# Altium integrated library TI Interface Peripheral Driver.IntLib: 66 symbols (part 1 of 2)
Pins are listed as number, name and electrical type; pins without a type are passive.

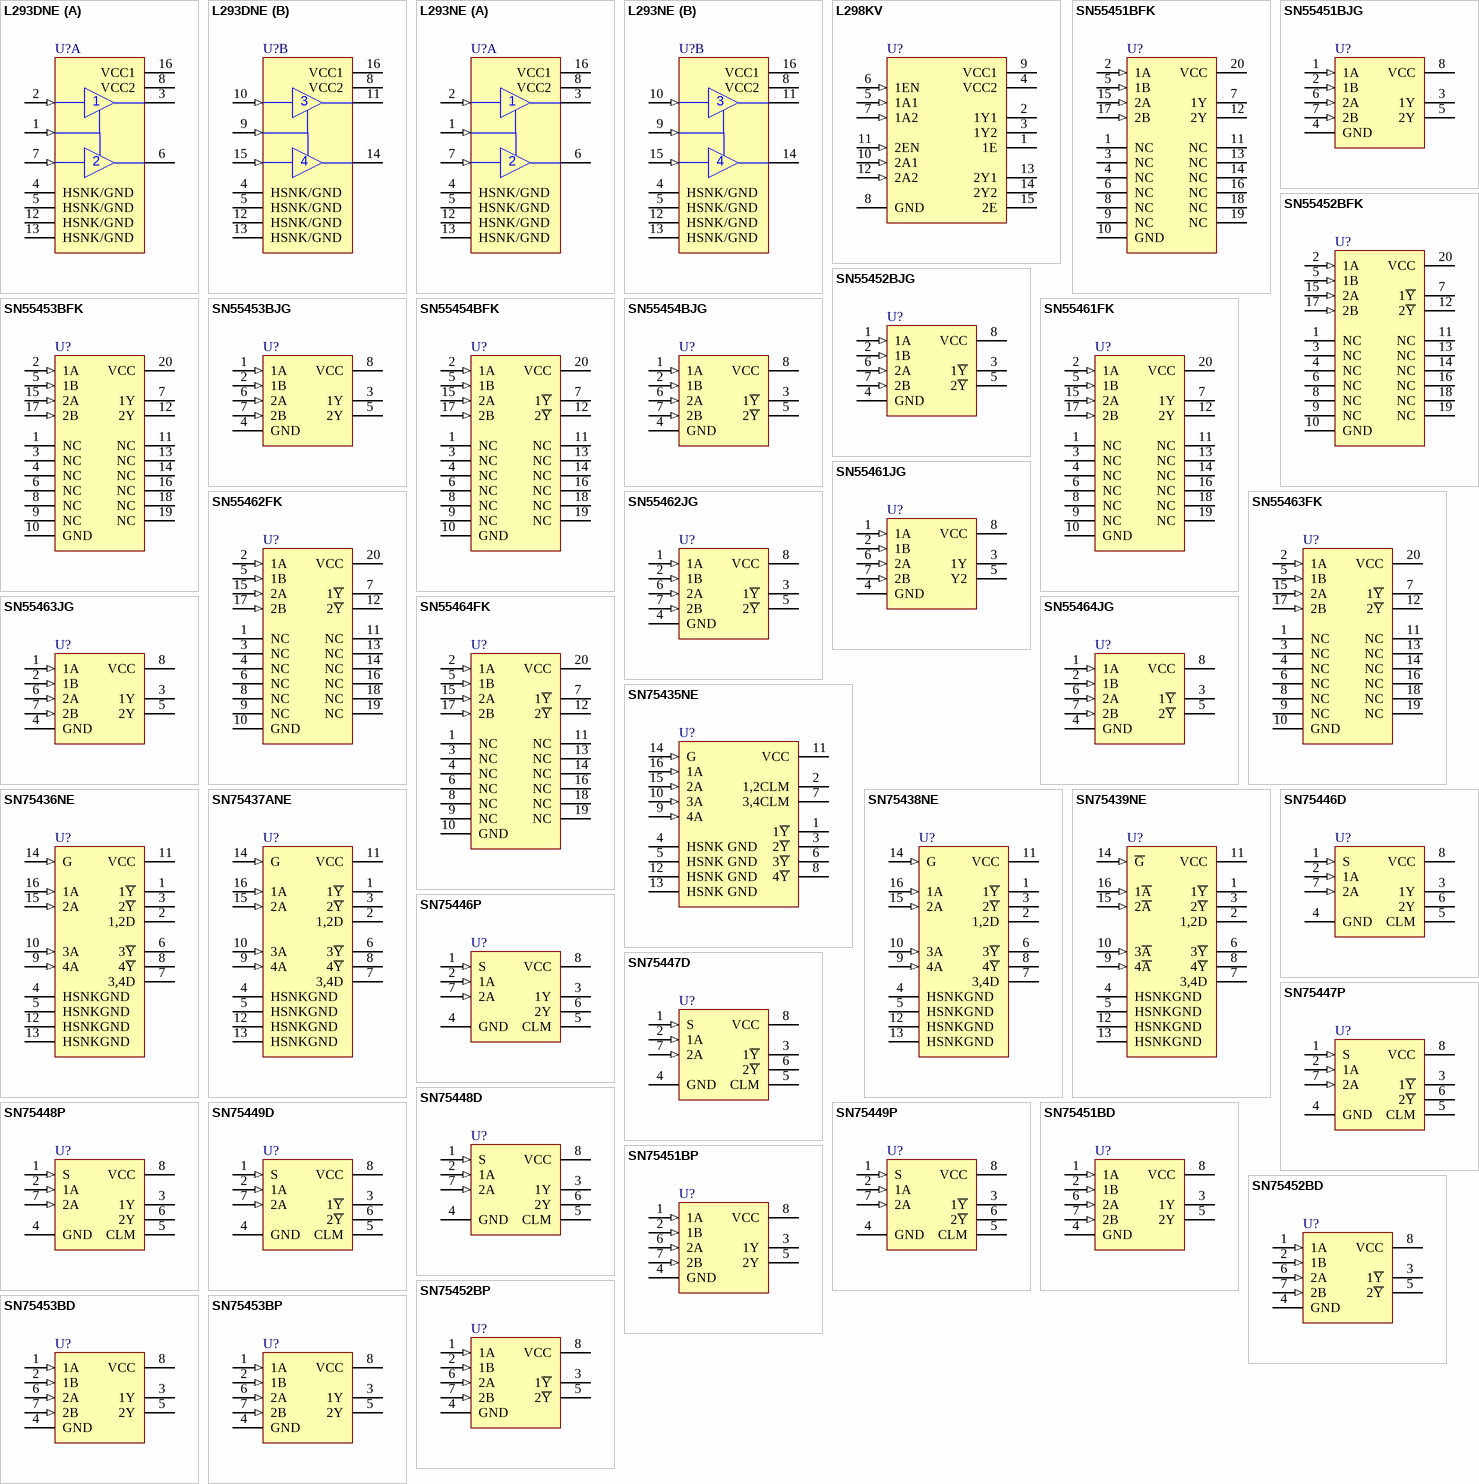
[diagram p0: symbols L293DNE to SN75453BP]

## L293DNE
designator U?
Quadruple Half-H Driver; Published: 15-May-2002; LatestRevisionDate: 29-May-2009; LatestRevisionNote: Component Body Added.; DatasheetVersion: May-1990; PackageVersion: 1991; PackageReference: NE016; Publisher: Altium Limited; PackageDescription: DIP, 16-Pin, Row Spacing 7.62 mm, Pitch 2.54 mm; Code_JEDEC: MS-001-BB; ComponentLink1Description: Manufacturer Link; ComponentLink1URL: http://www.ti.com/; ComponentLink2Description: Datasheet; ComponentLink2URL: http://www-s.ti.com/sc/ds/l293d.pdf
footprint NE016 (DIP, 16-Leads, Row Spacing 7.62mm, Pitch 2.54mm, Body 19.4x6.35mm)
3D model NE016 (DIP, 16-Pin, Row Spacing 7.62 mm, Pitch 2.54 mm)
pins on every part: 4 HSNK/GND (power), 5 HSNK/GND (power), 8 VCC2 (power), 12 HSNK/GND (power), 13 HSNK/GND (power), 16 VCC1 (power)
part A pins: 1 1,2EN (in), 2 1A (in), 3 1Y (hiz), 6 2Y (hiz), 7 2A (in)
part B pins: 9 3,4EN (in), 10 3A (in), 11 3Y (hiz), 14 4Y (hiz), 15 4A (in)

## L293NE
designator U?
Quadruple Half-H Driver; Published: 15-May-2002; LatestRevisionDate: 29-May-2009; LatestRevisionNote: Component Body Added.; DatasheetVersion: May-1990; PackageVersion: 1991; PackageReference: NE016; Publisher: Altium Limited; PackageDescription: DIP, 16-Pin, Row Spacing 7.62 mm, Pitch 2.54 mm; Code_JEDEC: MS-001-BB; ComponentLink1Description: Manufacturer Link; ComponentLink1URL: http://www.ti.com/; ComponentLink2Description: Datasheet; ComponentLink2URL: http://www-s.ti.com/sc/ds/l293.pdf
footprint NE016 (DIP, 16-Leads, Row Spacing 7.62mm, Pitch 2.54mm, Body 19.4x6.35mm)
3D model NE016 (DIP, 16-Pin, Row Spacing 7.62 mm, Pitch 2.54 mm)
pins on every part: 4 HSNK/GND (power), 5 HSNK/GND (power), 8 VCC2 (power), 12 HSNK/GND (power), 13 HSNK/GND (power), 16 VCC1 (power)
part A pins: 1 1,2EN (in), 2 1A (in), 3 1Y (hiz), 6 2Y (hiz), 7 2A (in)
part B pins: 9 3,4EN (in), 10 3A (in), 11 3Y (hiz), 14 4Y (hiz), 15 4A (in)

## L298KV
designator U?
Dual Full-H Driver; Note: The tab is elec is connected to GND pin; Published: 15-May-2002; DatasheetVersion: Jun-1990; PackageReference: KV015; Publisher: Altium Limited; PackageDescription: TO, Thru-Hole, Vertical, Heatsink Mounted; 15 Bent Staggered Leads; Pitch 1.27 mm; ComponentLink1Description: Manufacturer Link; ComponentLink1URL: http://www.ti.com/
footprint KV015 (TO, Thru-Hole, Vertical, Heatsink Mounted; 15 Bent Staggered Leads; Pitch 1.27 mm)
pins: 1 1E, 2 1Y1 (hiz), 3 1Y2 (hiz), 4 VCC2 (power), 5 1A1 (in), 6 1EN (in), 7 1A2 (in), 8 GND (power), 9 VCC1 (power), 10 2A1 (in), 11 2EN (in), 12 2A2 (in), 13 2Y1 (hiz), 14 2Y2 (hiz), 15 2E

## SN55451BFK
designator U?
Dual Peripheral Driver; Published: 15-May-2002; LatestRevisionDate: 29-May-2009; LatestRevisionNote: IPC-7351 Footprint Added.; DatasheetVersion: May-1990; PackageVersion: 1998; PackageReference: FK020; Publisher: Altium Limited; PackageDescription: 20-Pin Leadless Chip Carrier 1.27 mm Pitch; Code_JEDEC: MS-004-CB; ComponentLink1Description: Manufacturer Link; ComponentLink1URL: http://www.ti.com/
footprint FK020_N (Leadless Chip Carrier, 20-Leads, Body 8.9x8.9mm, Pitch 1.27mm, IPC Medium Density)
footprint FK020_L (Leadless Chip Carrier, 20-Leads, Body 8.9x8.9mm, Pitch 1.27mm, IPC High Density)
footprint FK020_M (Leadless Chip Carrier, 20-Leads, Body 8.9x8.9mm, Pitch 1.27mm, IPC Low Density)
pins: 1 NC, 2 1A (in), 3 NC, 4 NC, 5 1B (in), 6 NC, 7 1Y (oc), 8 NC, 9 NC, 10 GND (power), 11 NC, 12 2Y (oc), 13 NC, 14 NC, 15 2A (in), 16 NC, 17 2B (in), 18 NC, 19 NC, 20 VCC (power)

## SN55451BJG
designator U?
Dual Peripheral Driver; Published: 15-May-2002; LatestRevisionDate: 29-May-2009; LatestRevisionNote: Component Body Added.; DatasheetVersion: May-1990; PackageVersion: Jan-1995; PackageReference: JG008; Publisher: Altium Limited; PackageDescription: DIP, Ceramic, 8-Pin, Row Spacing 7.62 mm, Pitch 2.54 mm; ComponentLink1Description: Manufacturer Link; ComponentLink1URL: http://www.ti.com/; ComponentLink2Description: Datasheet; ComponentLink2URL: http://www-s.ti.com/sc/ds/sn55451b.pdf
footprint JG008 (DIP, 8-Leads, Row Spacing 7.62mm, Pitch 2.54mm, Body 9.58x6.67mm)
3D model JG008 (DIP, Ceramic, 8-Pin, Row Spacing 7.62 mm, Pitch 2.54 mm)
pins: 1 1A (in), 2 1B (in), 3 1Y (oc), 4 GND (power), 5 2Y (oc), 6 2A (in), 7 2B (in), 8 VCC (power)

## SN55452BFK
designator U?
Dual Peripheral Driver; Published: 15-May-2002; LatestRevisionDate: 29-May-2009; LatestRevisionNote: IPC-7351 Footprint Added.; DatasheetVersion: May-1990; PackageVersion: 1998; PackageReference: FK020; Publisher: Altium Limited; PackageDescription: 20-Pin Leadless Chip Carrier 1.27 mm Pitch; Code_JEDEC: MS-004-CB; ComponentLink1Description: Manufacturer Link; ComponentLink1URL: http://www.ti.com/
footprint FK020_N (Leadless Chip Carrier, 20-Leads, Body 8.9x8.9mm, Pitch 1.27mm, IPC Medium Density)
footprint FK020_L (Leadless Chip Carrier, 20-Leads, Body 8.9x8.9mm, Pitch 1.27mm, IPC High Density)
footprint FK020_M (Leadless Chip Carrier, 20-Leads, Body 8.9x8.9mm, Pitch 1.27mm, IPC Low Density)
pins: 1 NC, 2 1A (in), 3 NC, 4 NC, 5 1B (in), 6 NC, 7 1~{Y} (oc), 8 NC, 9 NC, 10 GND (power), 11 NC, 12 2~{Y} (oc), 13 NC, 14 NC, 15 2A (in), 16 NC, 17 2B (in), 18 NC, 19 NC, 20 VCC (power)

## SN55452BJG
designator U?
Dual Peripheral Driver; Published: 15-May-2002; LatestRevisionDate: 29-May-2009; LatestRevisionNote: Component Body Added.; DatasheetVersion: May-1990; PackageVersion: Jan-1995; PackageReference: JG008; Publisher: Altium Limited; PackageDescription: DIP, Ceramic, 8-Pin, Row Spacing 7.62 mm, Pitch 2.54 mm; ComponentLink1Description: Manufacturer Link; ComponentLink1URL: http://www.ti.com/; ComponentLink2Description: Datasheet; ComponentLink2URL: http://www-s.ti.com/sc/ds/sn55451b.pdf
footprint JG008 (DIP, 8-Leads, Row Spacing 7.62mm, Pitch 2.54mm, Body 9.58x6.67mm)
3D model JG008 (DIP, Ceramic, 8-Pin, Row Spacing 7.62 mm, Pitch 2.54 mm)
pins: 1 1A (in), 2 1B (in), 3 1~{Y} (oc), 4 GND (power), 5 2~{Y} (oc), 6 2A (in), 7 2B (in), 8 VCC (power)

## SN55453BFK
designator U?
Dual Peripheral Driver; Published: 15-May-2002; LatestRevisionDate: 29-May-2009; LatestRevisionNote: IPC-7351 Footprint Added.; DatasheetVersion: May-1990; PackageVersion: 1998; PackageReference: FK020; Publisher: Altium Limited; PackageDescription: 20-Pin Leadless Chip Carrier 1.27 mm Pitch; Code_JEDEC: MS-004-CB; ComponentLink1Description: Manufacturer Link; ComponentLink1URL: http://www.ti.com/
footprint FK020_N (Leadless Chip Carrier, 20-Leads, Body 8.9x8.9mm, Pitch 1.27mm, IPC Medium Density)
footprint FK020_L (Leadless Chip Carrier, 20-Leads, Body 8.9x8.9mm, Pitch 1.27mm, IPC High Density)
footprint FK020_M (Leadless Chip Carrier, 20-Leads, Body 8.9x8.9mm, Pitch 1.27mm, IPC Low Density)
pins: 1 NC, 2 1A (in), 3 NC, 4 NC, 5 1B (in), 6 NC, 7 1Y (oc), 8 NC, 9 NC, 10 GND (power), 11 NC, 12 2Y (oc), 13 NC, 14 NC, 15 2A (in), 16 NC, 17 2B (in), 18 NC, 19 NC, 20 VCC (power)

## SN55453BJG
designator U?
Dual Peripheral Driver; Published: 15-May-2002; LatestRevisionDate: 29-May-2009; LatestRevisionNote: Component Body Added.; DatasheetVersion: May-1990; PackageVersion: Jan-1995; PackageReference: JG008; Publisher: Altium Limited; PackageDescription: DIP, Ceramic, 8-Pin, Row Spacing 7.62 mm, Pitch 2.54 mm; ComponentLink1Description: Manufacturer Link; ComponentLink1URL: http://www.ti.com/; ComponentLink2Description: Datasheet; ComponentLink2URL: http://www-s.ti.com/sc/ds/sn55451b.pdf
footprint JG008 (DIP, 8-Leads, Row Spacing 7.62mm, Pitch 2.54mm, Body 9.58x6.67mm)
3D model JG008 (DIP, Ceramic, 8-Pin, Row Spacing 7.62 mm, Pitch 2.54 mm)
pins: 1 1A (in), 2 1B (in), 3 1Y (oc), 4 GND (power), 5 2Y (oc), 6 2A (in), 7 2B (in), 8 VCC (power)

## SN55454BFK
designator U?
Dual Peripheral Driver; Published: 15-May-2002; LatestRevisionDate: 29-May-2009; LatestRevisionNote: IPC-7351 Footprint Added.; DatasheetVersion: May-1990; PackageVersion: 1998; PackageReference: FK020; Publisher: Altium Limited; PackageDescription: 20-Pin Leadless Chip Carrier 1.27 mm Pitch; Code_JEDEC: MS-004-CB; ComponentLink1Description: Manufacturer Link; ComponentLink1URL: http://www.ti.com/
footprint FK020_N (Leadless Chip Carrier, 20-Leads, Body 8.9x8.9mm, Pitch 1.27mm, IPC Medium Density)
footprint FK020_L (Leadless Chip Carrier, 20-Leads, Body 8.9x8.9mm, Pitch 1.27mm, IPC High Density)
footprint FK020_M (Leadless Chip Carrier, 20-Leads, Body 8.9x8.9mm, Pitch 1.27mm, IPC Low Density)
pins: 1 NC, 2 1A (in), 3 NC, 4 NC, 5 1B (in), 6 NC, 7 1~{Y} (oc), 8 NC, 9 NC, 10 GND (power), 11 NC, 12 2~{Y} (oc), 13 NC, 14 NC, 15 2A (in), 16 NC, 17 2B (in), 18 NC, 19 NC, 20 VCC (power)

## SN55454BJG
designator U?
Dual Peripheral Driver; Published: 15-May-2002; LatestRevisionDate: 29-May-2009; LatestRevisionNote: Component Body Added.; DatasheetVersion: May-1990; PackageVersion: Jan-1995; PackageReference: JG008; Publisher: Altium Limited; PackageDescription: DIP, Ceramic, 8-Pin, Row Spacing 7.62 mm, Pitch 2.54 mm; ComponentLink1Description: Manufacturer Link; ComponentLink1URL: http://www.ti.com/; ComponentLink2Description: Datasheet; ComponentLink2URL: http://www-s.ti.com/sc/ds/sn55451b.pdf
footprint JG008 (DIP, 8-Leads, Row Spacing 7.62mm, Pitch 2.54mm, Body 9.58x6.67mm)
3D model JG008 (DIP, Ceramic, 8-Pin, Row Spacing 7.62 mm, Pitch 2.54 mm)
pins: 1 1A (in), 2 1B (in), 3 1~{Y} (oc), 4 GND (power), 5 2~{Y} (oc), 6 2A (in), 7 2B (in), 8 VCC (power)

## SN55461FK
designator U?
Dual Peripheral Driver; Published: 15-May-2002; LatestRevisionDate: 29-May-2009; LatestRevisionNote: IPC-7351 Footprint Added.; DatasheetVersion: May-1990; PackageVersion: 1998; PackageReference: FK020; Publisher: Altium Limited; PackageDescription: 20-Pin Leadless Chip Carrier 1.27 mm Pitch; Code_JEDEC: MS-004-CB; ComponentLink1Description: Manufacturer Link; ComponentLink1URL: http://www.ti.com/
footprint FK020_N (Leadless Chip Carrier, 20-Leads, Body 8.9x8.9mm, Pitch 1.27mm, IPC Medium Density)
footprint FK020_L (Leadless Chip Carrier, 20-Leads, Body 8.9x8.9mm, Pitch 1.27mm, IPC High Density)
footprint FK020_M (Leadless Chip Carrier, 20-Leads, Body 8.9x8.9mm, Pitch 1.27mm, IPC Low Density)
pins: 1 NC, 2 1A (in), 3 NC, 4 NC, 5 1B (in), 6 NC, 7 1Y (oc), 8 NC, 9 NC, 10 GND (power), 11 NC, 12 2Y (oc), 13 NC, 14 NC, 15 2A (in), 16 NC, 17 2B (in), 18 NC, 19 NC, 20 VCC (power)

## SN55461JG
designator U?
Dual Peripheral Driver; ComponentAvailability: Obsolete; Published: 15-May-2002; LatestRevisionDate: 29-May-2009; LatestRevisionNote: Component Body Added.; DatasheetVersion: May-1990; PackageVersion: Jan-1995; PackageReference: JG008; Publisher: Altium Limited; PackageDescription: DIP, Ceramic, 8-Pin, Row Spacing 7.62 mm, Pitch 2.54 mm; ComponentLink1Description: Manufacturer Link; ComponentLink1URL: http://www.ti.com/; ComponentLink2Description: Datasheet; ComponentLink2URL: http://www-s.ti.com/sc/ds/sn55461.pdf
footprint JG008 (DIP, 8-Leads, Row Spacing 7.62mm, Pitch 2.54mm, Body 9.58x6.67mm)
3D model JG008 (DIP, Ceramic, 8-Pin, Row Spacing 7.62 mm, Pitch 2.54 mm)
pins: 1 1A (in), 2 1B (in), 3 1Y (oc), 4 GND (power), 5 Y2 (oc), 6 2A (in), 7 2B (in), 8 VCC (power)

## SN55462FK
designator U?
Dual Peripheral Driver; Published: 15-May-2002; LatestRevisionDate: 29-May-2009; LatestRevisionNote: IPC-7351 Footprint Added.; DatasheetVersion: May-1990; PackageVersion: 1998; PackageReference: FK020; Publisher: Altium Limited; PackageDescription: 20-Pin Leadless Chip Carrier 1.27 mm Pitch; Code_JEDEC: MS-004-CB; ComponentLink1Description: Manufacturer Link; ComponentLink1URL: http://www.ti.com/
footprint FK020_N (Leadless Chip Carrier, 20-Leads, Body 8.9x8.9mm, Pitch 1.27mm, IPC Medium Density)
footprint FK020_L (Leadless Chip Carrier, 20-Leads, Body 8.9x8.9mm, Pitch 1.27mm, IPC High Density)
footprint FK020_M (Leadless Chip Carrier, 20-Leads, Body 8.9x8.9mm, Pitch 1.27mm, IPC Low Density)
pins: 1 NC, 2 1A (in), 3 NC, 4 NC, 5 1B (in), 6 NC, 7 1~{Y} (oc), 8 NC, 9 NC, 10 GND (power), 11 NC, 12 2~{Y} (oc), 13 NC, 14 NC, 15 2A (in), 16 NC, 17 2B (in), 18 NC, 19 NC, 20 VCC (power)

## SN55462JG
designator U?
Dual Peripheral Driver; ComponentAvailability: Obsolete; Published: 15-May-2002; LatestRevisionDate: 29-May-2009; LatestRevisionNote: Component Body Added.; DatasheetVersion: May-1990; PackageVersion: Jan-1995; PackageReference: JG008; Publisher: Altium Limited; PackageDescription: DIP, Ceramic, 8-Pin, Row Spacing 7.62 mm, Pitch 2.54 mm; ComponentLink1Description: Manufacturer Link; ComponentLink1URL: http://www.ti.com/; ComponentLink2Description: Datasheet; ComponentLink2URL: http://www-s.ti.com/sc/ds/sn55461.pdf
footprint JG008 (DIP, 8-Leads, Row Spacing 7.62mm, Pitch 2.54mm, Body 9.58x6.67mm)
3D model JG008 (DIP, Ceramic, 8-Pin, Row Spacing 7.62 mm, Pitch 2.54 mm)
pins: 1 1A (in), 2 1B (in), 3 1~{Y} (oc), 4 GND (power), 5 2~{Y} (oc), 6 2A (in), 7 2B (in), 8 VCC (power)

## SN55463FK
designator U?
Dual Peripheral Driver; Published: 15-May-2002; LatestRevisionDate: 29-May-2009; LatestRevisionNote: IPC-7351 Footprint Added.; DatasheetVersion: May-1990; PackageVersion: 1998; PackageReference: FK020; Publisher: Altium Limited; PackageDescription: 20-Pin Leadless Chip Carrier 1.27 mm Pitch; Code_JEDEC: MS-004-CB; ComponentLink1Description: Manufacturer Link; ComponentLink1URL: http://www.ti.com/
footprint FK020_N (Leadless Chip Carrier, 20-Leads, Body 8.9x8.9mm, Pitch 1.27mm, IPC Medium Density)
footprint FK020_L (Leadless Chip Carrier, 20-Leads, Body 8.9x8.9mm, Pitch 1.27mm, IPC High Density)
footprint FK020_M (Leadless Chip Carrier, 20-Leads, Body 8.9x8.9mm, Pitch 1.27mm, IPC Low Density)
pins: 1 NC, 2 1A (in), 3 NC, 4 NC, 5 1B (in), 6 NC, 7 1~{Y} (oc), 8 NC, 9 NC, 10 GND (power), 11 NC, 12 2~{Y} (oc), 13 NC, 14 NC, 15 2A (in), 16 NC, 17 2B (in), 18 NC, 19 NC, 20 VCC (power)

## SN55463JG
designator U?
Dual Peripheral Driver; ComponentAvailability: Obsolete; Published: 15-May-2002; LatestRevisionDate: 29-May-2009; LatestRevisionNote: Component Body Added.; DatasheetVersion: May-1990; PackageVersion: Jan-1995; PackageReference: JG008; Publisher: Altium Limited; PackageDescription: DIP, Ceramic, 8-Pin, Row Spacing 7.62 mm, Pitch 2.54 mm; ComponentLink1Description: Manufacturer Link; ComponentLink1URL: http://www.ti.com/; ComponentLink2Description: Datasheet; ComponentLink2URL: http://www-s.ti.com/sc/ds/sn55461.pdf
footprint JG008 (DIP, 8-Leads, Row Spacing 7.62mm, Pitch 2.54mm, Body 9.58x6.67mm)
3D model JG008 (DIP, Ceramic, 8-Pin, Row Spacing 7.62 mm, Pitch 2.54 mm)
pins: 1 1A (in), 2 1B (in), 3 1Y (oc), 4 GND (power), 5 2Y (oc), 6 2A (in), 7 2B (in), 8 VCC (power)

## SN55464FK
designator U?
Dual Peripheral Driver; Published: 15-May-2002; LatestRevisionDate: 29-May-2009; LatestRevisionNote: IPC-7351 Footprint Added.; DatasheetVersion: May-1990; PackageVersion: 1998; PackageReference: FK020; Publisher: Altium Limited; PackageDescription: 20-Pin Leadless Chip Carrier 1.27 mm Pitch; Code_JEDEC: MS-004-CB; ComponentLink1Description: Manufacturer Link; ComponentLink1URL: http://www.ti.com/
footprint FK020_N (Leadless Chip Carrier, 20-Leads, Body 8.9x8.9mm, Pitch 1.27mm, IPC Medium Density)
footprint FK020_L (Leadless Chip Carrier, 20-Leads, Body 8.9x8.9mm, Pitch 1.27mm, IPC High Density)
footprint FK020_M (Leadless Chip Carrier, 20-Leads, Body 8.9x8.9mm, Pitch 1.27mm, IPC Low Density)
pins: 1 NC, 2 1A (in), 3 NC, 4 NC, 5 1B (in), 6 NC, 7 1~{Y} (oc), 8 NC, 9 NC, 10 GND (power), 11 NC, 12 2~{Y} (oc), 13 NC, 14 NC, 15 2A (in), 16 NC, 17 2B (in), 18 NC, 19 NC, 20 VCC (power)

## SN55464JG
designator U?
Dual Peripheral Driver; Published: 15-May-2002; LatestRevisionDate: 29-May-2009; LatestRevisionNote: Component Body Added.; DatasheetVersion: May-1990; PackageVersion: Jan-1995; PackageReference: JG008; Publisher: Altium Limited; PackageDescription: DIP, Ceramic, 8-Pin, Row Spacing 7.62 mm, Pitch 2.54 mm; ComponentLink1Description: Manufacturer Link; ComponentLink1URL: http://www.ti.com/
footprint JG008 (DIP, 8-Leads, Row Spacing 7.62mm, Pitch 2.54mm, Body 9.58x6.67mm)
3D model JG008 (DIP, Ceramic, 8-Pin, Row Spacing 7.62 mm, Pitch 2.54 mm)
pins: 1 1A (in), 2 1B (in), 3 1~{Y} (oc), 4 GND (power), 5 2~{Y} (oc), 6 2A (in), 7 2B (in), 8 VCC (power)

## SN75435NE
designator U?
Quadruple Peripheral Driver with Output Fault Protection; Published: 15-May-2002; LatestRevisionDate: 29-May-2009; LatestRevisionNote: Component Body Added.; DatasheetVersion: Nov-1989; PackageVersion: 1991; PackageReference: NE016; Publisher: Altium Limited; PackageDescription: DIP, 16-Pin, Row Spacing 7.62 mm, Pitch 2.54 mm; Code_JEDEC: MS-001-BB; ComponentLink1Description: Manufacturer Link; ComponentLink1URL: http://www.ti.com/
footprint NE016 (DIP, 16-Leads, Row Spacing 7.62mm, Pitch 2.54mm, Body 19.4x6.35mm)
3D model NE016 (DIP, 16-Pin, Row Spacing 7.62 mm, Pitch 2.54 mm)
pins: 1 1~{Y} (oc), 2 1,2CLM, 3 2~{Y} (oc), 4 HSNK GND (power), 5 HSNK GND (power), 6 3~{Y} (oc), 7 3,4CLM, 8 4~{Y} (oc), 9 4A (in), 10 3A (in), 11 VCC (power), 12 HSNK GND (power), 13 HSNK GND (power), 14 G (in), 15 2A (in), 16 1A (in)

## SN75436NE
designator U?
Quadruple Peripheral Driver; Published: 15-May-2002; LatestRevisionDate: 29-May-2009; LatestRevisionNote: Component Body Added.; DatasheetVersion: Dec-1986; PackageVersion: 1991; PackageReference: NE016; Publisher: Altium Limited; PackageDescription: DIP, 16-Pin, Row Spacing 7.62 mm, Pitch 2.54 mm; Code_JEDEC: MS-001-BB; ComponentLink1Description: Manufacturer Link; ComponentLink1URL: http://www.ti.com/
footprint NE016 (DIP, 16-Leads, Row Spacing 7.62mm, Pitch 2.54mm, Body 19.4x6.35mm)
3D model NE016 (DIP, 16-Pin, Row Spacing 7.62 mm, Pitch 2.54 mm)
pins: 1 1~{Y} (oc), 2 1,2D, 3 2~{Y} (oc), 4 HSNKGND (power), 5 HSNKGND (power), 6 3~{Y} (oc), 7 3,4D, 8 4~{Y} (oc), 9 4A (in), 10 3A (in), 11 VCC (power), 12 HSNKGND (power), 13 HSNKGND (power), 14 G (in), 15 2A (in), 16 1A (in)

## SN75437ANE
designator U?
Quadruple Peripheral Driver; Published: 15-May-2002; LatestRevisionDate: 29-May-2009; LatestRevisionNote: Component Body Added.; DatasheetVersion: Dec-1986; PackageVersion: 1991; PackageReference: NE016; Publisher: Altium Limited; PackageDescription: DIP, 16-Pin, Row Spacing 7.62 mm, Pitch 2.54 mm; Code_JEDEC: MS-001-BB; ComponentLink1Description: Manufacturer Link; ComponentLink1URL: http://www.ti.com/; ComponentLink2Description: Datasheet; ComponentLink2URL: http://www-s.ti.com/sc/ds/sn75437a.pdf
footprint NE016 (DIP, 16-Leads, Row Spacing 7.62mm, Pitch 2.54mm, Body 19.4x6.35mm)
3D model NE016 (DIP, 16-Pin, Row Spacing 7.62 mm, Pitch 2.54 mm)
pins: 1 1~{Y} (oc), 2 1,2D, 3 2~{Y} (oc), 4 HSNKGND (power), 5 HSNKGND (power), 6 3~{Y} (oc), 7 3,4D, 8 4~{Y} (oc), 9 4A (in), 10 3A (in), 11 VCC (power), 12 HSNKGND (power), 13 HSNKGND (power), 14 G (in), 15 2A (in), 16 1A (in)

## SN75438NE
designator U?
Quadruple Peripheral Driver; Published: 15-May-2002; LatestRevisionDate: 29-May-2009; LatestRevisionNote: Component Body Added.; DatasheetVersion: Dec-1986; PackageVersion: 1991; PackageReference: NE016; Publisher: Altium Limited; PackageDescription: DIP, 16-Pin, Row Spacing 7.62 mm, Pitch 2.54 mm; Code_JEDEC: MS-001-BB; ComponentLink1Description: Manufacturer Link; ComponentLink1URL: http://www.ti.com/
footprint NE016 (DIP, 16-Leads, Row Spacing 7.62mm, Pitch 2.54mm, Body 19.4x6.35mm)
3D model NE016 (DIP, 16-Pin, Row Spacing 7.62 mm, Pitch 2.54 mm)
pins: 1 1~{Y} (oc), 2 1,2D, 3 2~{Y} (oc), 4 HSNKGND (power), 5 HSNKGND (power), 6 3~{Y} (oc), 7 3,4D, 8 4~{Y} (oc), 9 4A (in), 10 3A (in), 11 VCC (power), 12 HSNKGND (power), 13 HSNKGND (power), 14 G (in), 15 2A (in), 16 1A (in)

## SN75439NE
designator U?
Quadruple Peripheral Driver; ComponentAvailability: Obsolete; Published: 15-May-2002; LatestRevisionDate: 29-May-2009; LatestRevisionNote: Component Body Added.; DatasheetVersion: Nov-1989; PackageVersion: 1991; PackageReference: NE016; Publisher: Altium Limited; PackageDescription: DIP, 16-Pin, Row Spacing 7.62 mm, Pitch 2.54 mm; Code_JEDEC: MS-001-BB; ComponentLink1Description: Manufacturer Link; ComponentLink1URL: http://www.ti.com/; ComponentLink2Description: Datasheet; ComponentLink2URL: http://www-s.ti.com/sc/ds/sn75439.pdf
footprint NE016 (DIP, 16-Leads, Row Spacing 7.62mm, Pitch 2.54mm, Body 19.4x6.35mm)
3D model NE016 (DIP, 16-Pin, Row Spacing 7.62 mm, Pitch 2.54 mm)
pins: 1 1~{Y} (oc), 2 1,2D, 3 2~{Y} (oc), 4 HSNKGND (power), 5 HSNKGND (power), 6 3~{Y} (oc), 7 3,4D, 8 4~{Y} (oc), 9 4~{A} (in), 10 3~{A} (in), 11 VCC (power), 12 HSNKGND (power), 13 HSNKGND (power), 14 ~{G} (in), 15 2~{A} (in), 16 1~{A} (in)

## SN75446D
designator U?
Dual peripheral Driver; ComponentAvailability: Obsolete; Published: 15-May-2002; LatestRevisionDate: 13-Apr-2006; LatestRevisionNote: IPC-7351 Footprint Added.; DatasheetVersion: Dec-1989; PackageVersion: Nov-2006; PackageReference: D008; Publisher: Altium Limited; PackageDescription: 8-Pin Small Outline Integrated Circuit 1.27 mm Pitch; Code_JEDEC: MS-012-AA; Code_IPC: SOIC127P600-8; ComponentLink1Description: Manufacturer Link; ComponentLink1URL: http://www.ti.com/; ComponentLink2Description: Datasheet; ComponentLink2URL: http://www-s.ti.com/sc/ds/sn75446.pdf
footprint D008_N (SOIC, 8-Leads, Body 4.9x3.9mm, Pitch 1.27mm, IPC Medium Density)
footprint D008_L (SOIC, 8-Leads, Body 4.9x3.9mm, Pitch 1.27mm, IPC High Density)
footprint D008_M (SOIC, 8-Leads, Body 4.9x3.9mm, Pitch 1.27mm, IPC Low Density)
3D model D008 (8-Pin Small Outline Integrated Circuit 1.27 mm Pitch)
pins: 1 S (in), 2 1A (in), 3 1Y (oc), 4 GND (power), 5 CLM, 6 2Y (oc), 7 2A (in), 8 VCC (power)

## SN75446P
designator U?
Dual peripheral Driver; ComponentAvailability: Obsolete; Published: 15-May-2002; LatestRevisionDate: 29-May-2009; LatestRevisionNote: Component Body Added.; DatasheetVersion: Dec-1989; PackageVersion: Jun-1999; PackageReference: P008; Publisher: Altium Limited; PackageDescription: DIP, 8-Pin, Row Spacing 7.62 mm, Pitch 2.54 mm; Code_JEDEC: MO-001-AN; ComponentLink1Description: Manufacturer Link; ComponentLink1URL: http://www.ti.com/; ComponentLink2Description: Datasheet; ComponentLink2URL: http://www-s.ti.com/sc/ds/sn75446.pdf
footprint P008 (DIP, 8-Leads, Row Spacing 7.62mm, Pitch 2.54mm, Body 9.81x6.35mm)
3D model P008 (DIP, 8-Pin, Row Spacing 7.62 mm, Pitch 2.54 mm)
pins: 1 S (in), 2 1A (in), 3 1Y (oc), 4 GND (power), 5 CLM, 6 2Y (oc), 7 2A (in), 8 VCC (power)

## SN75447D
designator U?
Dual peripheral Driver; ComponentAvailability: Obsolete; Published: 15-May-2002; LatestRevisionDate: 13-Apr-2006; LatestRevisionNote: IPC-7351 Footprint Added.; DatasheetVersion: Dec-1989; PackageVersion: Nov-2006; PackageReference: D008; Publisher: Altium Limited; PackageDescription: 8-Pin Small Outline Integrated Circuit 1.27 mm Pitch; Code_JEDEC: MS-012-AA; Code_IPC: SOIC127P600-8; ComponentLink1Description: Manufacturer Link; ComponentLink1URL: http://www.ti.com/; ComponentLink2Description: Datasheet; ComponentLink2URL: http://www-s.ti.com/sc/ds/sn75446.pdf
footprint D008_N (SOIC, 8-Leads, Body 4.9x3.9mm, Pitch 1.27mm, IPC Medium Density)
footprint D008_L (SOIC, 8-Leads, Body 4.9x3.9mm, Pitch 1.27mm, IPC High Density)
footprint D008_M (SOIC, 8-Leads, Body 4.9x3.9mm, Pitch 1.27mm, IPC Low Density)
3D model D008 (8-Pin Small Outline Integrated Circuit 1.27 mm Pitch)
pins: 1 S (in), 2 1A (in), 3 1~{Y} (oc), 4 GND (power), 5 CLM, 6 2~{Y} (oc), 7 2A (in), 8 VCC (power)

## SN75447P
designator U?
Dual peripheral Driver; ComponentAvailability: Obsolete; Published: 15-May-2002; LatestRevisionDate: 29-May-2009; LatestRevisionNote: Component Body Added.; DatasheetVersion: Dec-1989; PackageVersion: Jun-1999; PackageReference: P008; Publisher: Altium Limited; PackageDescription: DIP, 8-Pin, Row Spacing 7.62 mm, Pitch 2.54 mm; Code_JEDEC: MO-001-AN; ComponentLink1Description: Manufacturer Link; ComponentLink1URL: http://www.ti.com/; ComponentLink2Description: Datasheet; ComponentLink2URL: http://www-s.ti.com/sc/ds/sn75446.pdf
footprint P008 (DIP, 8-Leads, Row Spacing 7.62mm, Pitch 2.54mm, Body 9.81x6.35mm)
3D model P008 (DIP, 8-Pin, Row Spacing 7.62 mm, Pitch 2.54 mm)
pins: 1 S (in), 2 1A (in), 3 1~{Y} (oc), 4 GND (power), 5 CLM, 6 2~{Y} (oc), 7 2A (in), 8 VCC (power)

## SN75448D
designator U?
Dual peripheral Driver; Published: 15-May-2002; LatestRevisionDate: 13-Apr-2006; LatestRevisionNote: IPC-7351 Footprint Added.; DatasheetVersion: Dec-1989; PackageVersion: Nov-2006; PackageReference: D008; Publisher: Altium Limited; PackageDescription: 8-Pin Small Outline Integrated Circuit 1.27 mm Pitch; Code_JEDEC: MS-012-AA; Code_IPC: SOIC127P600-8; ComponentLink1Description: Manufacturer Link; ComponentLink1URL: http://www.ti.com/
footprint D008_N (SOIC, 8-Leads, Body 4.9x3.9mm, Pitch 1.27mm, IPC Medium Density)
footprint D008_L (SOIC, 8-Leads, Body 4.9x3.9mm, Pitch 1.27mm, IPC High Density)
footprint D008_M (SOIC, 8-Leads, Body 4.9x3.9mm, Pitch 1.27mm, IPC Low Density)
3D model D008 (8-Pin Small Outline Integrated Circuit 1.27 mm Pitch)
pins: 1 S (in), 2 1A (in), 3 1Y (oc), 4 GND (power), 5 CLM, 6 2Y (oc), 7 2A (in), 8 VCC (power)

## SN75448P
designator U?
Dual peripheral Driver; Published: 15-May-2002; LatestRevisionDate: 29-May-2009; LatestRevisionNote: Component Body Added.; DatasheetVersion: Dec-1989; PackageVersion: Jun-1999; PackageReference: P008; Publisher: Altium Limited; PackageDescription: DIP, 8-Pin, Row Spacing 7.62 mm, Pitch 2.54 mm; Code_JEDEC: MO-001-AN; ComponentLink1Description: Manufacturer Link; ComponentLink1URL: http://www.ti.com/
footprint P008 (DIP, 8-Leads, Row Spacing 7.62mm, Pitch 2.54mm, Body 9.81x6.35mm)
3D model P008 (DIP, 8-Pin, Row Spacing 7.62 mm, Pitch 2.54 mm)
pins: 1 S (in), 2 1A (in), 3 1Y (oc), 4 GND (power), 5 CLM, 6 2Y (oc), 7 2A (in), 8 VCC (power)

## SN75449D
designator U?
Dual peripheral Driver; Published: 15-May-2002; LatestRevisionDate: 13-Apr-2006; LatestRevisionNote: IPC-7351 Footprint Added.; DatasheetVersion: Dec-1989; PackageVersion: Nov-2006; PackageReference: D008; Publisher: Altium Limited; PackageDescription: 8-Pin Small Outline Integrated Circuit 1.27 mm Pitch; Code_JEDEC: MS-012-AA; Code_IPC: SOIC127P600-8; ComponentLink1Description: Manufacturer Link; ComponentLink1URL: http://www.ti.com/
footprint D008_N (SOIC, 8-Leads, Body 4.9x3.9mm, Pitch 1.27mm, IPC Medium Density)
footprint D008_L (SOIC, 8-Leads, Body 4.9x3.9mm, Pitch 1.27mm, IPC High Density)
footprint D008_M (SOIC, 8-Leads, Body 4.9x3.9mm, Pitch 1.27mm, IPC Low Density)
3D model D008 (8-Pin Small Outline Integrated Circuit 1.27 mm Pitch)
pins: 1 S (in), 2 1A (in), 3 1~{Y} (oc), 4 GND (power), 5 CLM, 6 2~{Y} (oc), 7 2A (in), 8 VCC (power)

## SN75449P
designator U?
Dual peripheral Driver; Published: 15-May-2002; LatestRevisionDate: 29-May-2009; LatestRevisionNote: Component Body Added.; DatasheetVersion: Dec-1989; PackageVersion: Jun-1999; PackageReference: P008; Publisher: Altium Limited; PackageDescription: DIP, 8-Pin, Row Spacing 7.62 mm, Pitch 2.54 mm; Code_JEDEC: MO-001-AN; ComponentLink1Description: Manufacturer Link; ComponentLink1URL: http://www.ti.com/
footprint P008 (DIP, 8-Leads, Row Spacing 7.62mm, Pitch 2.54mm, Body 9.81x6.35mm)
3D model P008 (DIP, 8-Pin, Row Spacing 7.62 mm, Pitch 2.54 mm)
pins: 1 S (in), 2 1A (in), 3 1~{Y} (oc), 4 GND (power), 5 CLM, 6 2~{Y} (oc), 7 2A (in), 8 VCC (power)

## SN75451BD
designator U?
Dual Peripheral Driver; Published: 15-May-2002; LatestRevisionDate: 13-Apr-2006; LatestRevisionNote: IPC-7351 Footprint Added.; DatasheetVersion: May-1990; PackageVersion: Nov-2006; PackageReference: D008; Publisher: Altium Limited; PackageDescription: 8-Pin Small Outline Integrated Circuit 1.27 mm Pitch; Code_JEDEC: MS-012-AA; Code_IPC: SOIC127P600-8; ComponentLink1Description: Manufacturer Link; ComponentLink1URL: http://www.ti.com/; ComponentLink2Description: Datasheet; ComponentLink2URL: http://www-s.ti.com/sc/ds/sn55451b.pdf
footprint D008_N (SOIC, 8-Leads, Body 4.9x3.9mm, Pitch 1.27mm, IPC Medium Density)
footprint D008_L (SOIC, 8-Leads, Body 4.9x3.9mm, Pitch 1.27mm, IPC High Density)
footprint D008_M (SOIC, 8-Leads, Body 4.9x3.9mm, Pitch 1.27mm, IPC Low Density)
3D model D008 (8-Pin Small Outline Integrated Circuit 1.27 mm Pitch)
pins: 1 1A (in), 2 1B (in), 3 1Y (oc), 4 GND (power), 5 2Y (oc), 6 2A (in), 7 2B (in), 8 VCC (power)

## SN75451BP
designator U?
Dual Peripheral Driver; Published: 15-May-2002; LatestRevisionDate: 29-May-2009; LatestRevisionNote: Component Body Added.; DatasheetVersion: May-1990; PackageVersion: Jun-1999; PackageReference: P008; Publisher: Altium Limited; PackageDescription: DIP, 8-Pin, Row Spacing 7.62 mm, Pitch 2.54 mm; Code_JEDEC: MO-001-AN; ComponentLink1Description: Manufacturer Link; ComponentLink1URL: http://www.ti.com/; ComponentLink2Description: Datasheet; ComponentLink2URL: http://www-s.ti.com/sc/ds/sn55451b.pdf
footprint P008 (DIP, 8-Leads, Row Spacing 7.62mm, Pitch 2.54mm, Body 9.81x6.35mm)
3D model P008 (DIP, 8-Pin, Row Spacing 7.62 mm, Pitch 2.54 mm)
pins: 1 1A (in), 2 1B (in), 3 1Y (oc), 4 GND (power), 5 2Y (oc), 6 2A (in), 7 2B (in), 8 VCC (power)

## SN75452BD
designator U?
Dual Peripheral Driver; Published: 15-May-2002; LatestRevisionDate: 13-Apr-2006; LatestRevisionNote: IPC-7351 Footprint Added.; DatasheetVersion: May-1990; PackageVersion: Nov-2006; PackageReference: D008; Publisher: Altium Limited; PackageDescription: 8-Pin Small Outline Integrated Circuit 1.27 mm Pitch; Code_JEDEC: MS-012-AA; Code_IPC: SOIC127P600-8; ComponentLink1Description: Manufacturer Link; ComponentLink1URL: http://www.ti.com/; ComponentLink2Description: Datasheet; ComponentLink2URL: http://www-s.ti.com/sc/ds/sn55451b.pdf
footprint D008_N (SOIC, 8-Leads, Body 4.9x3.9mm, Pitch 1.27mm, IPC Medium Density)
footprint D008_L (SOIC, 8-Leads, Body 4.9x3.9mm, Pitch 1.27mm, IPC High Density)
footprint D008_M (SOIC, 8-Leads, Body 4.9x3.9mm, Pitch 1.27mm, IPC Low Density)
3D model D008 (8-Pin Small Outline Integrated Circuit 1.27 mm Pitch)
pins: 1 1A (in), 2 1B (in), 3 1~{Y} (oc), 4 GND (power), 5 2~{Y} (oc), 6 2A (in), 7 2B (in), 8 VCC (power)

## SN75452BP
designator U?
Dual Peripheral Driver; Published: 15-May-2002; LatestRevisionDate: 29-May-2009; LatestRevisionNote: Component Body Added.; DatasheetVersion: May-1990; PackageVersion: Jun-1999; PackageReference: P008; Publisher: Altium Limited; PackageDescription: DIP, 8-Pin, Row Spacing 7.62 mm, Pitch 2.54 mm; Code_JEDEC: MO-001-AN; ComponentLink1Description: Manufacturer Link; ComponentLink1URL: http://www.ti.com/; ComponentLink2Description: Datasheet; ComponentLink2URL: http://www-s.ti.com/sc/ds/sn55451b.pdf
footprint P008 (DIP, 8-Leads, Row Spacing 7.62mm, Pitch 2.54mm, Body 9.81x6.35mm)
3D model P008 (DIP, 8-Pin, Row Spacing 7.62 mm, Pitch 2.54 mm)
pins: 1 1A (in), 2 1B (in), 3 1~{Y} (oc), 4 GND (power), 5 2~{Y} (oc), 6 2A (in), 7 2B (in), 8 VCC (power)

## SN75453BD
designator U?
Dual Peripheral Driver; Published: 15-May-2002; LatestRevisionDate: 13-Apr-2006; LatestRevisionNote: IPC-7351 Footprint Added.; DatasheetVersion: May-1990; PackageVersion: Nov-2006; PackageReference: D008; Publisher: Altium Limited; PackageDescription: 8-Pin Small Outline Integrated Circuit 1.27 mm Pitch; Code_JEDEC: MS-012-AA; Code_IPC: SOIC127P600-8; ComponentLink1Description: Manufacturer Link; ComponentLink1URL: http://www.ti.com/; ComponentLink2Description: Datasheet; ComponentLink2URL: http://www-s.ti.com/sc/ds/sn55451b.pdf
footprint D008_N (SOIC, 8-Leads, Body 4.9x3.9mm, Pitch 1.27mm, IPC Medium Density)
footprint D008_L (SOIC, 8-Leads, Body 4.9x3.9mm, Pitch 1.27mm, IPC High Density)
footprint D008_M (SOIC, 8-Leads, Body 4.9x3.9mm, Pitch 1.27mm, IPC Low Density)
3D model D008 (8-Pin Small Outline Integrated Circuit 1.27 mm Pitch)
pins: 1 1A (in), 2 1B (in), 3 1Y (oc), 4 GND (power), 5 2Y (oc), 6 2A (in), 7 2B (in), 8 VCC (power)

## SN75453BP
designator U?
Dual Peripheral Driver; Published: 15-May-2002; LatestRevisionDate: 29-May-2009; LatestRevisionNote: Component Body Added.; DatasheetVersion: May-1990; PackageVersion: Jun-1999; PackageReference: P008; Publisher: Altium Limited; PackageDescription: DIP, 8-Pin, Row Spacing 7.62 mm, Pitch 2.54 mm; Code_JEDEC: MO-001-AN; ComponentLink1Description: Manufacturer Link; ComponentLink1URL: http://www.ti.com/; ComponentLink2Description: Datasheet; ComponentLink2URL: http://www-s.ti.com/sc/ds/sn55451b.pdf
footprint P008 (DIP, 8-Leads, Row Spacing 7.62mm, Pitch 2.54mm, Body 9.81x6.35mm)
3D model P008 (DIP, 8-Pin, Row Spacing 7.62 mm, Pitch 2.54 mm)
pins: 1 1A (in), 2 1B (in), 3 1Y (oc), 4 GND (power), 5 2Y (oc), 6 2A (in), 7 2B (in), 8 VCC (power)

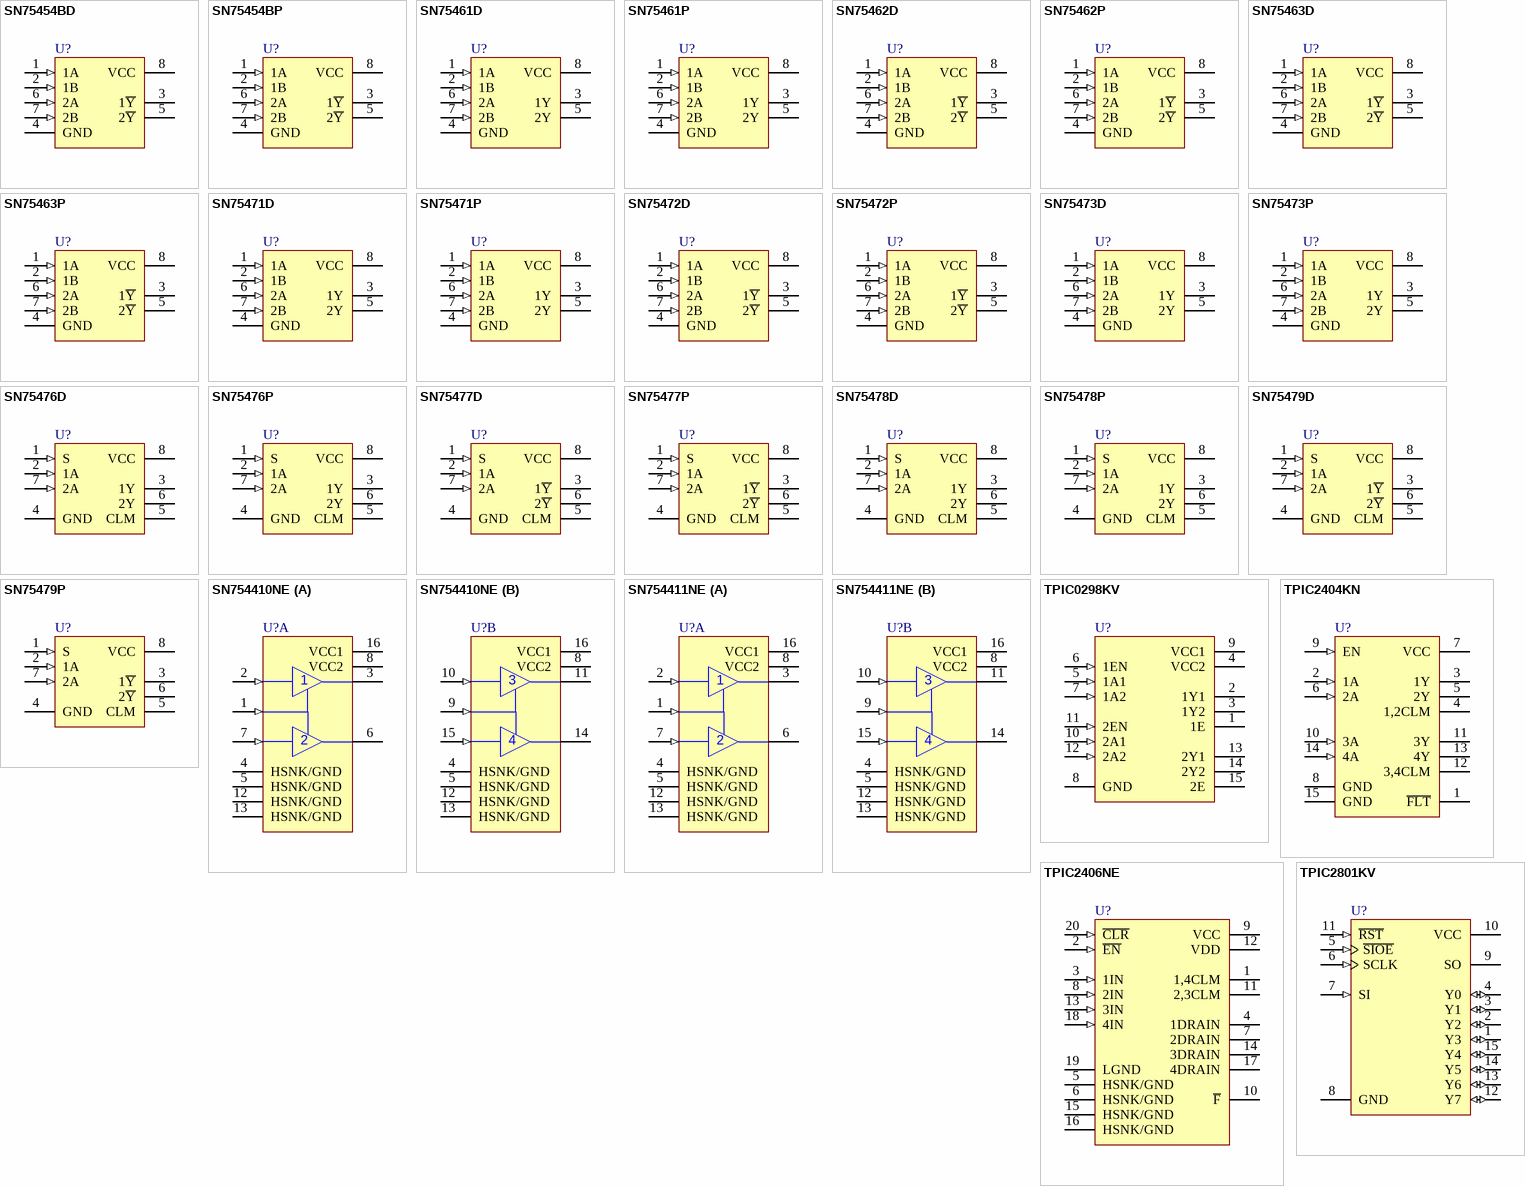
[diagram p1: symbols SN75454BD to TPIC2801KV]

## SN75454BD
designator U?
Dual Peripheral Driver; Published: 15-May-2002; LatestRevisionDate: 13-Apr-2006; LatestRevisionNote: IPC-7351 Footprint Added.; DatasheetVersion: May-1990; PackageVersion: Nov-2006; PackageReference: D008; Publisher: Altium Limited; PackageDescription: 8-Pin Small Outline Integrated Circuit 1.27 mm Pitch; Code_JEDEC: MS-012-AA; Code_IPC: SOIC127P600-8; ComponentLink1Description: Manufacturer Link; ComponentLink1URL: http://www.ti.com/; ComponentLink2Description: Datasheet; ComponentLink2URL: http://www-s.ti.com/sc/ds/sn55451b.pdf
footprint D008_N (SOIC, 8-Leads, Body 4.9x3.9mm, Pitch 1.27mm, IPC Medium Density)
footprint D008_L (SOIC, 8-Leads, Body 4.9x3.9mm, Pitch 1.27mm, IPC High Density)
footprint D008_M (SOIC, 8-Leads, Body 4.9x3.9mm, Pitch 1.27mm, IPC Low Density)
3D model D008 (8-Pin Small Outline Integrated Circuit 1.27 mm Pitch)
pins: 1 1A (in), 2 1B (in), 3 1~{Y} (oc), 4 GND (power), 5 2~{Y} (oc), 6 2A (in), 7 2B (in), 8 VCC (power)

## SN75454BP
designator U?
Dual Peripheral Driver; Published: 15-May-2002; LatestRevisionDate: 29-May-2009; LatestRevisionNote: Component Body Added.; DatasheetVersion: May-1990; PackageVersion: Jun-1999; PackageReference: P008; Publisher: Altium Limited; PackageDescription: DIP, 8-Pin, Row Spacing 7.62 mm, Pitch 2.54 mm; Code_JEDEC: MO-001-AN; ComponentLink1Description: Manufacturer Link; ComponentLink1URL: http://www.ti.com/; ComponentLink2Description: Datasheet; ComponentLink2URL: http://www-s.ti.com/sc/ds/sn55451b.pdf
footprint P008 (DIP, 8-Leads, Row Spacing 7.62mm, Pitch 2.54mm, Body 9.81x6.35mm)
3D model P008 (DIP, 8-Pin, Row Spacing 7.62 mm, Pitch 2.54 mm)
pins: 1 1A (in), 2 1B (in), 3 1~{Y} (oc), 4 GND (power), 5 2~{Y} (oc), 6 2A (in), 7 2B (in), 8 VCC (power)

## SN75461D
designator U?
Dual Peripheral Driver; ComponentAvailability: Obsolete; Published: 15-May-2002; LatestRevisionDate: 13-Apr-2006; LatestRevisionNote: IPC-7351 Footprint Added.; DatasheetVersion: May-1990; PackageVersion: Nov-2006; PackageReference: D008; Publisher: Altium Limited; PackageDescription: 8-Pin Small Outline Integrated Circuit 1.27 mm Pitch; Code_JEDEC: MS-012-AA; Code_IPC: SOIC127P600-8; ComponentLink1Description: Manufacturer Link; ComponentLink1URL: http://www.ti.com/; ComponentLink2Description: Datasheet; ComponentLink2URL: http://www-s.ti.com/sc/ds/sn55461.pdf
footprint D008_N (SOIC, 8-Leads, Body 4.9x3.9mm, Pitch 1.27mm, IPC Medium Density)
footprint D008_L (SOIC, 8-Leads, Body 4.9x3.9mm, Pitch 1.27mm, IPC High Density)
footprint D008_M (SOIC, 8-Leads, Body 4.9x3.9mm, Pitch 1.27mm, IPC Low Density)
3D model D008 (8-Pin Small Outline Integrated Circuit 1.27 mm Pitch)
pins: 1 1A (in), 2 1B (in), 3 1Y (oc), 4 GND (power), 5 2Y (oc), 6 2A (in), 7 2B (in), 8 VCC (power)

## SN75461P
designator U?
Dual Peripheral Driver; ComponentAvailability: Obsolete; Published: 15-May-2002; LatestRevisionDate: 29-May-2009; LatestRevisionNote: Component Body Added.; DatasheetVersion: May-1990; PackageVersion: Jun-1999; PackageReference: P008; Publisher: Altium Limited; PackageDescription: DIP, 8-Pin, Row Spacing 7.62 mm, Pitch 2.54 mm; Code_JEDEC: MO-001-AN; ComponentLink1Description: Manufacturer Link; ComponentLink1URL: http://www.ti.com/; ComponentLink2Description: Datasheet; ComponentLink2URL: http://www-s.ti.com/sc/ds/sn55461.pdf
footprint P008 (DIP, 8-Leads, Row Spacing 7.62mm, Pitch 2.54mm, Body 9.81x6.35mm)
3D model P008 (DIP, 8-Pin, Row Spacing 7.62 mm, Pitch 2.54 mm)
pins: 1 1A (in), 2 1B (in), 3 1Y (oc), 4 GND (power), 5 2Y (oc), 6 2A (in), 7 2B (in), 8 VCC (power)

## SN75462D
designator U?
Dual Peripheral Driver; Published: 15-May-2002; LatestRevisionDate: 13-Apr-2006; LatestRevisionNote: IPC-7351 Footprint Added.; DatasheetVersion: May-1990; PackageVersion: Nov-2006; PackageReference: D008; Publisher: Altium Limited; PackageDescription: 8-Pin Small Outline Integrated Circuit 1.27 mm Pitch; Code_JEDEC: MS-012-AA; Code_IPC: SOIC127P600-8; ComponentLink1Description: Manufacturer Link; ComponentLink1URL: http://www.ti.com/; ComponentLink2Description: Datasheet; ComponentLink2URL: http://www-s.ti.com/sc/ds/sn55461.pdf
footprint D008_N (SOIC, 8-Leads, Body 4.9x3.9mm, Pitch 1.27mm, IPC Medium Density)
footprint D008_L (SOIC, 8-Leads, Body 4.9x3.9mm, Pitch 1.27mm, IPC High Density)
footprint D008_M (SOIC, 8-Leads, Body 4.9x3.9mm, Pitch 1.27mm, IPC Low Density)
3D model D008 (8-Pin Small Outline Integrated Circuit 1.27 mm Pitch)
pins: 1 1A (in), 2 1B (in), 3 1~{Y} (oc), 4 GND (power), 5 2~{Y} (oc), 6 2A (in), 7 2B (in), 8 VCC (power)

## SN75462P
designator U?
Dual Peripheral Driver; Published: 15-May-2002; LatestRevisionDate: 29-May-2009; LatestRevisionNote: Component Body Added.; DatasheetVersion: May-1990; PackageVersion: Jun-1999; PackageReference: P008; Publisher: Altium Limited; PackageDescription: DIP, 8-Pin, Row Spacing 7.62 mm, Pitch 2.54 mm; Code_JEDEC: MO-001-AN; ComponentLink1Description: Manufacturer Link; ComponentLink1URL: http://www.ti.com/; ComponentLink2Description: Datasheet; ComponentLink2URL: http://www-s.ti.com/sc/ds/sn55461.pdf
footprint P008 (DIP, 8-Leads, Row Spacing 7.62mm, Pitch 2.54mm, Body 9.81x6.35mm)
3D model P008 (DIP, 8-Pin, Row Spacing 7.62 mm, Pitch 2.54 mm)
pins: 1 1A (in), 2 1B (in), 3 1~{Y} (oc), 4 GND (power), 5 2~{Y} (oc), 6 2A (in), 7 2B (in), 8 VCC (power)

## SN75463D
designator U?
Dual Peripheral Driver; ComponentAvailability: Obsolete; Published: 15-May-2002; LatestRevisionDate: 13-Apr-2006; LatestRevisionNote: IPC-7351 Footprint Added.; DatasheetVersion: May-1990; PackageVersion: Nov-2006; PackageReference: D008; Publisher: Altium Limited; PackageDescription: 8-Pin Small Outline Integrated Circuit 1.27 mm Pitch; Code_JEDEC: MS-012-AA; Code_IPC: SOIC127P600-8; ComponentLink1Description: Manufacturer Link; ComponentLink1URL: http://www.ti.com/; ComponentLink2Description: Datasheet; ComponentLink2URL: http://www-s.ti.com/sc/ds/sn55461.pdf
footprint D008_N (SOIC, 8-Leads, Body 4.9x3.9mm, Pitch 1.27mm, IPC Medium Density)
footprint D008_L (SOIC, 8-Leads, Body 4.9x3.9mm, Pitch 1.27mm, IPC High Density)
footprint D008_M (SOIC, 8-Leads, Body 4.9x3.9mm, Pitch 1.27mm, IPC Low Density)
3D model D008 (8-Pin Small Outline Integrated Circuit 1.27 mm Pitch)
pins: 1 1A (in), 2 1B (in), 3 1~{Y} (oc), 4 GND (power), 5 2~{Y} (oc), 6 2A (in), 7 2B (in), 8 VCC (power)

## SN75463P
designator U?
Dual Peripheral Driver; Published: 15-May-2002; LatestRevisionDate: 29-May-2009; LatestRevisionNote: Component Body Added.; DatasheetVersion: May-1990; PackageVersion: Jun-1999; PackageReference: P008; Publisher: Altium Limited; PackageDescription: DIP, 8-Pin, Row Spacing 7.62 mm, Pitch 2.54 mm; Code_JEDEC: MO-001-AN; ComponentLink1Description: Manufacturer Link; ComponentLink1URL: http://www.ti.com/; ComponentLink2Description: Datasheet; ComponentLink2URL: http://www-s.ti.com/sc/ds/sn55461.pdf
footprint P008 (DIP, 8-Leads, Row Spacing 7.62mm, Pitch 2.54mm, Body 9.81x6.35mm)
3D model P008 (DIP, 8-Pin, Row Spacing 7.62 mm, Pitch 2.54 mm)
pins: 1 1A (in), 2 1B (in), 3 1~{Y} (oc), 4 GND (power), 5 2~{Y} (oc), 6 2A (in), 7 2B (in), 8 VCC (power)

## SN75471D
designator U?
Dual Peripheral Driver; Published: 15-May-2002; LatestRevisionDate: 13-Apr-2006; LatestRevisionNote: IPC-7351 Footprint Added.; DatasheetVersion: May-1990; PackageVersion: Nov-2006; PackageReference: D008; Publisher: Altium Limited; PackageDescription: 8-Pin Small Outline Integrated Circuit 1.27 mm Pitch; Code_JEDEC: MS-012-AA; Code_IPC: SOIC127P600-8; ComponentLink1Description: Manufacturer Link; ComponentLink1URL: http://www.ti.com/; ComponentLink2Description: Datasheet; ComponentLink2URL: http://www-s.ti.com/sc/ds/sn75471.pdf
footprint D008_N (SOIC, 8-Leads, Body 4.9x3.9mm, Pitch 1.27mm, IPC Medium Density)
footprint D008_L (SOIC, 8-Leads, Body 4.9x3.9mm, Pitch 1.27mm, IPC High Density)
footprint D008_M (SOIC, 8-Leads, Body 4.9x3.9mm, Pitch 1.27mm, IPC Low Density)
3D model D008 (8-Pin Small Outline Integrated Circuit 1.27 mm Pitch)
pins: 1 1A (in), 2 1B (in), 3 1Y (oc), 4 GND (power), 5 2Y (oc), 6 2A (in), 7 2B (in), 8 VCC (power)

## SN75471P
designator U?
Dual Peripheral Driver; Published: 15-May-2002; LatestRevisionDate: 29-May-2009; LatestRevisionNote: Component Body Added.; DatasheetVersion: May-1990; PackageVersion: Jun-1999; PackageReference: P008; Publisher: Altium Limited; PackageDescription: DIP, 8-Pin, Row Spacing 7.62 mm, Pitch 2.54 mm; Code_JEDEC: MO-001-AN; ComponentLink1Description: Manufacturer Link; ComponentLink1URL: http://www.ti.com/; ComponentLink2Description: Datasheet; ComponentLink2URL: http://www-s.ti.com/sc/ds/sn75471.pdf
footprint P008 (DIP, 8-Leads, Row Spacing 7.62mm, Pitch 2.54mm, Body 9.81x6.35mm)
3D model P008 (DIP, 8-Pin, Row Spacing 7.62 mm, Pitch 2.54 mm)
pins: 1 1A (in), 2 1B (in), 3 1Y (oc), 4 GND (power), 5 2Y (oc), 6 2A (in), 7 2B (in), 8 VCC (power)

## SN75472D
designator U?
Dual Peripheral Driver; Published: 15-May-2002; LatestRevisionDate: 13-Apr-2006; LatestRevisionNote: IPC-7351 Footprint Added.; DatasheetVersion: May-1990; PackageVersion: Nov-2006; PackageReference: D008; Publisher: Altium Limited; PackageDescription: 8-Pin Small Outline Integrated Circuit 1.27 mm Pitch; Code_JEDEC: MS-012-AA; Code_IPC: SOIC127P600-8; ComponentLink1Description: Manufacturer Link; ComponentLink1URL: http://www.ti.com/; ComponentLink2Description: Datasheet; ComponentLink2URL: http://www-s.ti.com/sc/ds/sn75471.pdf
footprint D008_N (SOIC, 8-Leads, Body 4.9x3.9mm, Pitch 1.27mm, IPC Medium Density)
footprint D008_L (SOIC, 8-Leads, Body 4.9x3.9mm, Pitch 1.27mm, IPC High Density)
footprint D008_M (SOIC, 8-Leads, Body 4.9x3.9mm, Pitch 1.27mm, IPC Low Density)
3D model D008 (8-Pin Small Outline Integrated Circuit 1.27 mm Pitch)
pins: 1 1A (in), 2 1B (in), 3 1~{Y} (oc), 4 GND (power), 5 2~{Y} (oc), 6 2A (in), 7 2B (in), 8 VCC (power)

## SN75472P
designator U?
Dual Peripheral Driver; Published: 15-May-2002; LatestRevisionDate: 29-May-2009; LatestRevisionNote: Component Body Added.; DatasheetVersion: May-1990; PackageVersion: Jun-1999; PackageReference: P008; Publisher: Altium Limited; PackageDescription: DIP, 8-Pin, Row Spacing 7.62 mm, Pitch 2.54 mm; Code_JEDEC: MO-001-AN; ComponentLink1Description: Manufacturer Link; ComponentLink1URL: http://www.ti.com/; ComponentLink2Description: Datasheet; ComponentLink2URL: http://www-s.ti.com/sc/ds/sn75471.pdf
footprint P008 (DIP, 8-Leads, Row Spacing 7.62mm, Pitch 2.54mm, Body 9.81x6.35mm)
3D model P008 (DIP, 8-Pin, Row Spacing 7.62 mm, Pitch 2.54 mm)
pins: 1 1A (in), 2 1B (in), 3 1~{Y} (oc), 4 GND (power), 5 2~{Y} (oc), 6 2A (in), 7 2B (in), 8 VCC (power)

## SN75473D
designator U?
Dual Peripheral Driver; ComponentAvailability: Obsolete; Published: 15-May-2002; LatestRevisionDate: 13-Apr-2006; LatestRevisionNote: IPC-7351 Footprint Added.; DatasheetVersion: May-1990; PackageVersion: Nov-2006; PackageReference: D008; Publisher: Altium Limited; PackageDescription: 8-Pin Small Outline Integrated Circuit 1.27 mm Pitch; Code_JEDEC: MS-012-AA; Code_IPC: SOIC127P600-8; ComponentLink1Description: Manufacturer Link; ComponentLink1URL: http://www.ti.com/; ComponentLink2Description: Datasheet; ComponentLink2URL: http://www-s.ti.com/sc/ds/sn75471.pdf
footprint D008_N (SOIC, 8-Leads, Body 4.9x3.9mm, Pitch 1.27mm, IPC Medium Density)
footprint D008_L (SOIC, 8-Leads, Body 4.9x3.9mm, Pitch 1.27mm, IPC High Density)
footprint D008_M (SOIC, 8-Leads, Body 4.9x3.9mm, Pitch 1.27mm, IPC Low Density)
3D model D008 (8-Pin Small Outline Integrated Circuit 1.27 mm Pitch)
pins: 1 1A (in), 2 1B (in), 3 1Y (oc), 4 GND (power), 5 2Y (oc), 6 2A (in), 7 2B (in), 8 VCC (power)

## SN75473P
designator U?
Dual Peripheral Driver; ComponentAvailability: Obsolete; Published: 15-May-2002; LatestRevisionDate: 29-May-2009; LatestRevisionNote: Component Body Added.; DatasheetVersion: May-1990; PackageVersion: Jun-1999; PackageReference: P008; Publisher: Altium Limited; PackageDescription: DIP, 8-Pin, Row Spacing 7.62 mm, Pitch 2.54 mm; Code_JEDEC: MO-001-AN; ComponentLink1Description: Manufacturer Link; ComponentLink1URL: http://www.ti.com/; ComponentLink2Description: Datasheet; ComponentLink2URL: http://www-s.ti.com/sc/ds/sn75471.pdf
footprint P008 (DIP, 8-Leads, Row Spacing 7.62mm, Pitch 2.54mm, Body 9.81x6.35mm)
3D model P008 (DIP, 8-Pin, Row Spacing 7.62 mm, Pitch 2.54 mm)
pins: 1 1A (in), 2 1B (in), 3 1Y (oc), 4 GND (power), 5 2Y (oc), 6 2A (in), 7 2B (in), 8 VCC (power)

## SN75476D
designator U?
Dual Peripheral Driver; ComponentAvailability: Obsolete; Published: 15-May-2002; LatestRevisionDate: 13-Apr-2006; LatestRevisionNote: IPC-7351 Footprint Added.; DatasheetVersion: Dec-1989; PackageVersion: Nov-2006; PackageReference: D008; Publisher: Altium Limited; PackageDescription: 8-Pin Small Outline Integrated Circuit 1.27 mm Pitch; Code_JEDEC: MS-012-AA; Code_IPC: SOIC127P600-8; ComponentLink1Description: Manufacturer Link; ComponentLink1URL: http://www.ti.com/; ComponentLink2Description: Datasheet; ComponentLink2URL: http://www-s.ti.com/sc/ds/sn75476.pdf
footprint D008_N (SOIC, 8-Leads, Body 4.9x3.9mm, Pitch 1.27mm, IPC Medium Density)
footprint D008_L (SOIC, 8-Leads, Body 4.9x3.9mm, Pitch 1.27mm, IPC High Density)
footprint D008_M (SOIC, 8-Leads, Body 4.9x3.9mm, Pitch 1.27mm, IPC Low Density)
3D model D008 (8-Pin Small Outline Integrated Circuit 1.27 mm Pitch)
pins: 1 S (in), 2 1A (in), 3 1Y (oc), 4 GND (power), 5 CLM, 6 2Y (oc), 7 2A (in), 8 VCC (power)

## SN75476P
designator U?
Dual Peripheral Driver; ComponentAvailability: Obsolete; Published: 15-May-2002; LatestRevisionDate: 29-May-2009; LatestRevisionNote: Component Body Added.; DatasheetVersion: Dec-1989; PackageVersion: Jun-1999; PackageReference: P008; Publisher: Altium Limited; PackageDescription: DIP, 8-Pin, Row Spacing 7.62 mm, Pitch 2.54 mm; Code_JEDEC: MO-001-AN; ComponentLink1Description: Manufacturer Link; ComponentLink1URL: http://www.ti.com/; ComponentLink2Description: Datasheet; ComponentLink2URL: http://www-s.ti.com/sc/ds/sn75476.pdf
footprint P008 (DIP, 8-Leads, Row Spacing 7.62mm, Pitch 2.54mm, Body 9.81x6.35mm)
3D model P008 (DIP, 8-Pin, Row Spacing 7.62 mm, Pitch 2.54 mm)
pins: 1 S (in), 2 1A (in), 3 1Y (oc), 4 GND (power), 5 CLM, 6 2Y (oc), 7 2A (in), 8 VCC (power)

## SN75477D
designator U?
Dual Peripheral Driver; Published: 15-May-2002; LatestRevisionDate: 13-Apr-2006; LatestRevisionNote: IPC-7351 Footprint Added.; DatasheetVersion: Dec-1989; PackageVersion: Nov-2006; PackageReference: D008; Publisher: Altium Limited; PackageDescription: 8-Pin Small Outline Integrated Circuit 1.27 mm Pitch; Code_JEDEC: MS-012-AA; Code_IPC: SOIC127P600-8; ComponentLink1Description: Manufacturer Link; ComponentLink1URL: http://www.ti.com/; ComponentLink2Description: Datasheet; ComponentLink2URL: http://www-s.ti.com/sc/ds/sn75476.pdf
footprint D008_N (SOIC, 8-Leads, Body 4.9x3.9mm, Pitch 1.27mm, IPC Medium Density)
footprint D008_L (SOIC, 8-Leads, Body 4.9x3.9mm, Pitch 1.27mm, IPC High Density)
footprint D008_M (SOIC, 8-Leads, Body 4.9x3.9mm, Pitch 1.27mm, IPC Low Density)
3D model D008 (8-Pin Small Outline Integrated Circuit 1.27 mm Pitch)
pins: 1 S (in), 2 1A (in), 3 1~{Y} (oc), 4 GND (power), 5 CLM, 6 2~{Y} (oc), 7 2A (in), 8 VCC (power)

## SN75477P
designator U?
Dual Peripheral Driver; Published: 15-May-2002; LatestRevisionDate: 29-May-2009; LatestRevisionNote: Component Body Added.; DatasheetVersion: Dec-1989; PackageVersion: Jun-1999; PackageReference: P008; Publisher: Altium Limited; PackageDescription: DIP, 8-Pin, Row Spacing 7.62 mm, Pitch 2.54 mm; Code_JEDEC: MO-001-AN; ComponentLink1Description: Manufacturer Link; ComponentLink1URL: http://www.ti.com/; ComponentLink2Description: Datasheet; ComponentLink2URL: http://www-s.ti.com/sc/ds/sn75476.pdf
footprint P008 (DIP, 8-Leads, Row Spacing 7.62mm, Pitch 2.54mm, Body 9.81x6.35mm)
3D model P008 (DIP, 8-Pin, Row Spacing 7.62 mm, Pitch 2.54 mm)
pins: 1 S (in), 2 1A (in), 3 1~{Y} (oc), 4 GND (power), 5 CLM, 6 2~{Y} (oc), 7 2A (in), 8 VCC (power)

## SN75478D
designator U?
Dual Peripheral Driver; ComponentAvailability: Obsolete; Published: 15-May-2002; LatestRevisionDate: 13-Apr-2006; LatestRevisionNote: IPC-7351 Footprint Added.; DatasheetVersion: Dec-1989; PackageVersion: Nov-2006; PackageReference: D008; Publisher: Altium Limited; PackageDescription: 8-Pin Small Outline Integrated Circuit 1.27 mm Pitch; Code_JEDEC: MS-012-AA; Code_IPC: SOIC127P600-8; ComponentLink1Description: Manufacturer Link; ComponentLink1URL: http://www.ti.com/; ComponentLink2Description: Datasheet; ComponentLink2URL: http://www-s.ti.com/sc/ds/sn75476.pdf
footprint D008_N (SOIC, 8-Leads, Body 4.9x3.9mm, Pitch 1.27mm, IPC Medium Density)
footprint D008_L (SOIC, 8-Leads, Body 4.9x3.9mm, Pitch 1.27mm, IPC High Density)
footprint D008_M (SOIC, 8-Leads, Body 4.9x3.9mm, Pitch 1.27mm, IPC Low Density)
3D model D008 (8-Pin Small Outline Integrated Circuit 1.27 mm Pitch)
pins: 1 S (in), 2 1A (in), 3 1Y (oc), 4 GND (power), 5 CLM, 6 2Y (oc), 7 2A (in), 8 VCC (power)